# Altium schematic symbol library ALTIUM_LAB07.SchLib: 1 symbol
Pins are listed as number, name and electrical type; pins without a type are passive.

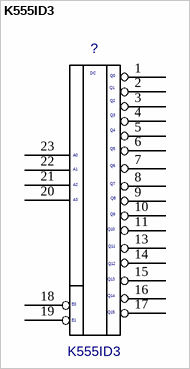
[diagram p0: symbol K555ID3]

## K555ID3
designator ?
Value: *
footprint DIP24
pins: 1, 2, 3, 4, 5, 6, 7, 8, 9, 10, 11, 12 VCC (power) hidden, 13, 14, 15, 16, 17, 18, 19, 20, 21, 22, 23, 24 GND (power) hidden
text: DC; Q0; Q1; Q2; Q3; Q4; Q5; A0; A1; Q6; Q7; A2; A3; Q8; Q9; Q10; Q11; Q12; Q13; Q14; E0; Q15; E1